# EAGLE library part LM25575_PWP_16 (library rezzonics)
LM25575 SIMPLE SWITCHER® 42V, 1.5A Step-Down Switching Regulator
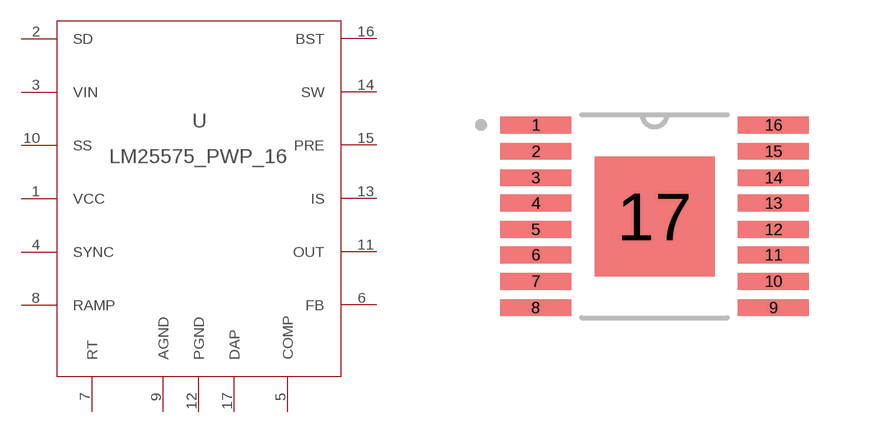
[diagram p3: symbol with the pads of MXA16A; footprint MXA16A]

Designator prefix U

## LM25575_PWP_16 (BASE_PN: LM25575; COMPTYPE: Switcher; PARTNUMBER: LM25575MH; SYMBOL: NameLM25575MH; TYPE: LM25575MH; VENDOR: NationalSemiconductor; VERSION: 05/02/2007)  [MXA16A]
1  VCC  pas
2  SD  pas
3  VIN  in
4  SYNC  pas
5  COMP  pas
6  FB  pas
7  RT  pas
8  RAMP  pas
9  AGND  pwr
10  SS  pas
11  OUT  sup
12  PGND  pas
13  IS  pas
14  SW  out
15  PRE  pas
16  BST  pas
17  DAP  pas

## Footprint MXA16A (pad centres in mm)
MXA16A
smd 1.78 x 0.42: 1 -2.97,2.286; 2 -2.97,1.626; 3 -2.97,0.965; 4 -2.97,0.33; 5 -2.97,-0.33; 6 -2.97,-0.965; 7 -2.97,-1.626; 8 -2.97,-2.286; 9 2.97,-2.286; 10 2.97,-1.626; 11 2.97,-0.965; 12 2.97,-0.33; 13 2.97,0.33; 14 2.97,0.965; 15 2.97,1.626; 16 2.97,2.286
smd 2.997 x 2.997: 17 0,0